# Altium integrated library LM324.IntLib: 1 symbol
Pins are listed as number, name and electrical type; pins without a type are passive.

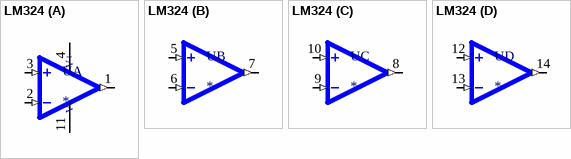
[diagram p0: symbol LM324]

## LM324
designator U
General Purpose Amplifier 4 Circuit 14-SOIC; MP: LM324; MF: Texas Instruments; Price: None; Package: SOIC-14 Texas Instruments; Value: *; Availability: Unavailable; SnapEDA_Link: https://www.snapeda.com/parts/LM324/Texas%20Instruments/view-part/2758578/?ref=snap
footprint SOIC127P600X175-14N
part A pins: 1 OUTPUT1 (out), 2 INVERTING_INPUT1 (in), 3 NON-INVERTING_INPUT1 (in), 4 VCC+ (power), 11 VCC- (power)
part B pins: 5 NON-INVERTING_INPUT2 (in), 6 INVERTING_INPUT2 (in), 7 OUTPUT2 (out)
part C pins: 8 OUTPUT3 (out), 9 INVERTING_INPUT3 (in), 10 NON-INVERTING_INPUT3 (in)
part D pins: 12 NON-INVERTING_INPUT4 (in), 13 INVERTING_INPUT4 (in), 14 OUTPUT4 (out)
part A text: V+; V-